# EAGLE library part PIN_HEADER_MALE_2X03_06P (library 180118 Library by matsu)
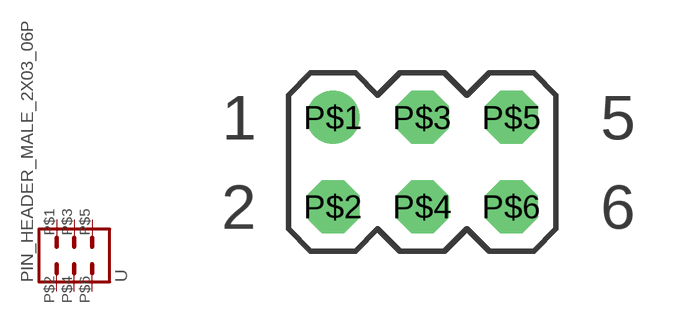
[diagram p43: symbol with the pads of PIN_HEADER_MALE_2X03_06P; footprint PIN_HEADER_MALE_2X03_06P]

Designator prefix -

## PIN_HEADER_MALE_2X03_06P  [PIN_HEADER_MALE_2X03_06P]
P$1  P$1
P$2  P$2
P$3  P$3
P$4  P$4
P$5  P$5
P$6  P$6

## Footprint PIN_HEADER_MALE_2X03_06P (pad centres in mm)
drill 1: P$1 -2.54,1.27
drill 1 octagon: P$2 -2.54,-1.27; P$3 0,1.27; P$4 0,-1.27; P$5 2.54,1.27; P$6 2.54,-1.27